# Altium footprint library SMT 0603.PcbLib: 2 footprints
Each footprint in its own frame and in the unit in brackets; x right, y up, seen from the top. Pads: shape width x height; smd on the part's side, far side on the other; paste and mask are expansions set on the pad; w line width, h text height; cw(c..) or ccw(c..) is an arc to the next point about the centre after c.
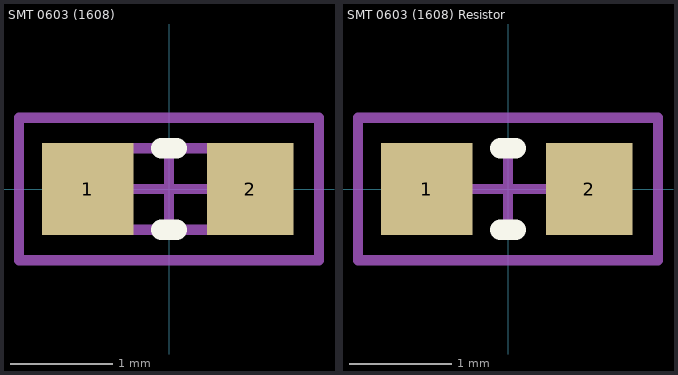
[diagram p0: the footprints below, top view; thin cyan lines are the x and y axes]

## SMT 0603 (1608) [mm]
pads (2):
  rect 0.9x0.9 smd: 1(-0.8,0)
  rect 0.85x0.9 smd: 2(0.8,0)
Top Overlay:
  lines w0.2: -0.075,-0.4 0.075,-0.4 ; -0.075,0.4 0.075,0.4
Mechanical 13:
  lines w0.1: -0.5,-0.4 -0.5,0.4 ; 0.5,-0.4 0.5,0.4 ; -0.8,-0.4 0.8,-0.4 0.8,0.4 -0.8,0.4 -0.8,-0.4
Mechanical 15:
  lines w0.1: -0.4,0 0.4,0 ; 0,-0.4 0,0.375 ; -1.475,-0.7 1.475,-0.7 1.475,0.7 -1.475,0.7 -1.475,-0.7
3D body: height 0.6, standoff 0, extent -0.5,-0.4 0.5,0.4
3D body: height 0.6, standoff 0, extent -0.8,-0.4 -0.5,0.4
3D body: height 0.6, standoff 0, extent 0.5,-0.4 0.8,0.4

## SMT 0603 (1608) Resistor [mm]
height 0.559
pads (2):
  rect 0.9x0.9 smd: 1(-0.8,0)
  rect 0.85x0.9 smd: 2(0.8,0)
Top Overlay:
  lines w0.2: -0.075,-0.4 0.075,-0.4 ; -0.075,0.4 0.075,0.4
Mechanical 15:
  lines w0.1: -0.4,0 0.4,0 ; 0,-0.4 0,0.375 ; -1.475,-0.7 1.475,-0.7 1.475,0.7 -1.475,0.7 -1.475,-0.7
3D body: height 0.45, standoff 0, extent -0.8,-0.4 0.8,0.4